# Altium footprint library AD9744.PcbLib: 3 footprints
Each footprint in its own frame and in the unit in brackets; x right, y up, seen from the top. Pads: shape width x height; smd on the part's side, far side on the other; paste and mask are expansions set on the pad; w line width, h text height; cw(c..) or ccw(c..) is an arc to the next point about the centre after c.
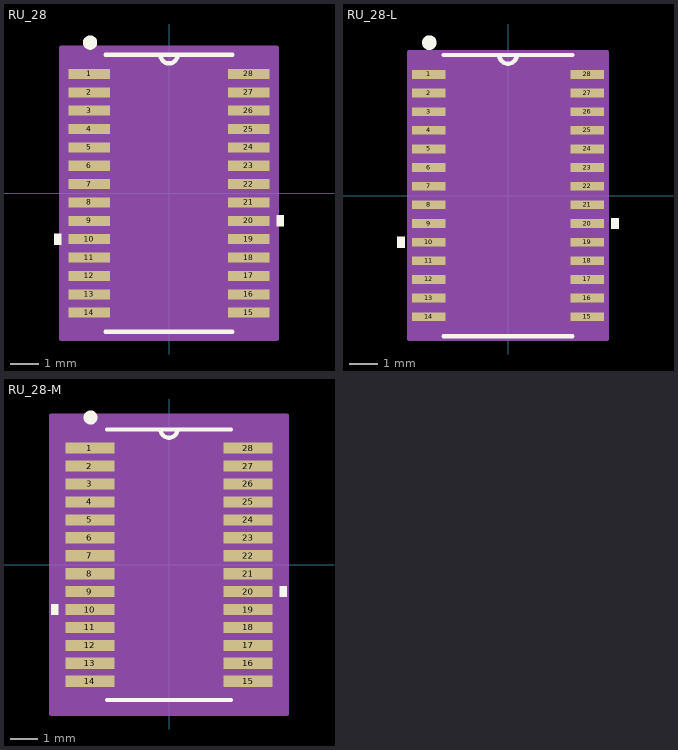
[diagram p0: the footprints below, top view; thin cyan lines are the x and y axes]

## RU_28 [mil]
pads (28):
  rect 58x14 smd mask+4: 1(-111,166.34) 2(-111,140.75) 3(-111,115.16) 4(-111,89.57) 5(-111,63.98) 6(-111,38.39) 7(-111,12.8) 8(-111,-12.8) 9(-111,-38.39) 10(-111,-63.98) 11(-111,-89.57) 12(-111,-115.16) 13(-111,-140.75) 14(-111,-166.34) 15(111,-166.34) 16(111,-140.75) 17(111,-115.16) 18(111,-89.57) 19(111,-63.98) 20(111,-38.39) 21(111,-12.8) 22(111,12.8) 23(111,38.39) 24(111,63.98) 25(111,89.57) 26(111,115.16) 27(111,140.75) 28(111,166.34)
Top Overlay:
  circle w10: c-110,210 r5
  region: 150,-30.89 160,-30.89 160,-45.89 150,-45.89
  region: -150,-56.48 -160,-56.48 -160,-71.48 -150,-71.48
  lines w6: -88.5,-193 88.5,-193 ; -88.5,193 88.5,193 ; -12,193 ccw(c0,193) 12,193
Mechanical 13:
  lines w0: -12,193 ccw(c0,193) 12,193
Mechanical 15:
  region: 150,-203 -150,-203 -150,203 150,203
  lines w6: -150,-203 150,-203 150,203 -150,203 -150,-203
3D body: height 47.01, standoff 0, extent -126,-193 126,193

## RU_28-L [mil]
pads (28):
  rect 46x12 smd: 1(-109,166.34) 2(-109,140.75) 3(-109,115.16) 4(-109,89.57) 5(-109,63.98) 6(-109,38.39) 7(-109,12.8) 8(-109,-12.8) 9(-109,-38.39) 10(-109,-63.98) 11(-109,-89.57) 12(-109,-115.16) 13(-109,-140.75) 14(-109,-166.34) 15(109,-166.34) 16(109,-140.75) 17(109,-115.16) 18(109,-89.57) 19(109,-63.98) 20(109,-38.39) 21(109,-12.8) 22(109,12.8) 23(109,38.39) 24(109,63.98) 25(109,89.57) 26(109,115.16) 27(109,140.75) 28(109,166.34)
Top Overlay:
  circle w10: c-108,210 r5
  region: -142,-56.48 -152,-56.48 -152,-71.48 -142,-71.48
  region: 142,-30.89 152,-30.89 152,-45.89 142,-45.89
  lines w6: -88.5,-193 88.5,-193 ; -88.5,193 88.5,193 ; -12,193 ccw(c0,193) 12,193
Mechanical 13:
  lines w0: -12,193 ccw(c0,193) 12,193
Mechanical 15:
  region: 136,-197 -136,-197 -136,197 136,197
  lines w6: -136,-197 -136,197 136,197 136,-197 -136,-197
3D body: height 47.01, standoff 0, extent -125.99,-192.99 126.01,193

## RU_28-M [mil]
pads (28):
  rect 70x16 smd mask+4: 1(-113,166.34) 2(-113,140.75) 3(-113,115.16) 4(-113,89.57) 5(-113,63.98) 6(-113,38.39) 7(-113,12.8) 8(-113,-12.8) 9(-113,-38.39) 10(-113,-63.98) 11(-113,-89.57) 12(-113,-115.16) 13(-113,-140.75) 14(-113,-166.34) 15(113,-166.34) 16(113,-140.75) 17(113,-115.16) 18(113,-89.57) 19(113,-63.98) 20(113,-38.39) 21(113,-12.8) 22(113,12.8) 23(113,38.39) 24(113,63.98) 25(113,89.57) 26(113,115.16) 27(113,140.75) 28(113,166.34)
Top Overlay:
  circle w10: c-112,210 r5
  region: 158,-30.89 168,-30.89 168,-45.89 158,-45.89
  region: -158,-56.48 -168,-56.48 -168,-71.48 -158,-71.48
  lines w6: -88.5,-193 88.5,-193 ; -88.5,193 88.5,193 ; -12,193 ccw(c0,193) 12,193
Mechanical 13:
  lines w0: -12,193 ccw(c0,193) 12,193
Mechanical 15:
  region: 168,-213 -168,-213 -168,213 168,213
  lines w6: -168,-213 168,-213 168,213 -168,213 -168,-213
3D body: height 47.01, standoff 0, extent -125.99,-192.99 126.01,193.01